# Altium footprint library switch2.PcbLib: 1 footprints
Each footprint in its own frame and in the unit in brackets; x right, y up, seen from the top. Pads: shape width x height; smd on the part's side, far side on the other; paste and mask are expansions set on the pad; w line width, h text height; cw(c..) or ccw(c..) is an arc to the next point about the centre after c.
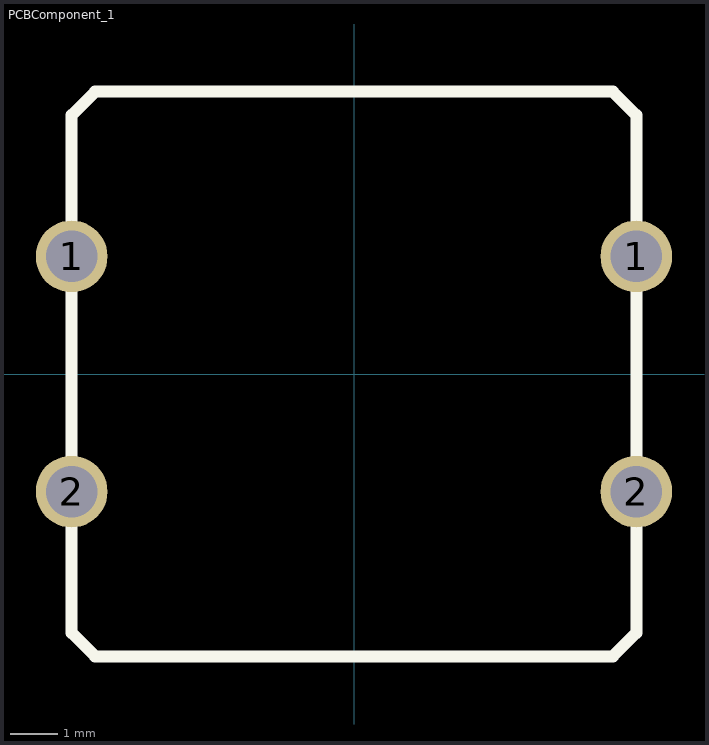
[diagram p0: the footprint, top view; thin cyan lines are the x and y axes]

## PCBComponent_1 [mm]
pads (4):
  round 1.524 hole 1.1: 1(-6,2.5) 1(6,2.5) 2(-6,-2.5) 2(6,-2.5)
Top Overlay:
  lines w0.254: -6,-5.5 -6,5.5 -5.5,6 0,6 5.5,6 6,5.5 6,-5.5 5.5,-6 -5.5,-6 -6,-5.5